# Altium schematic symbol library IC-MODULE.SchLib: 42 symbols
Pins are listed as number, name and electrical type; pins without a type are passive.

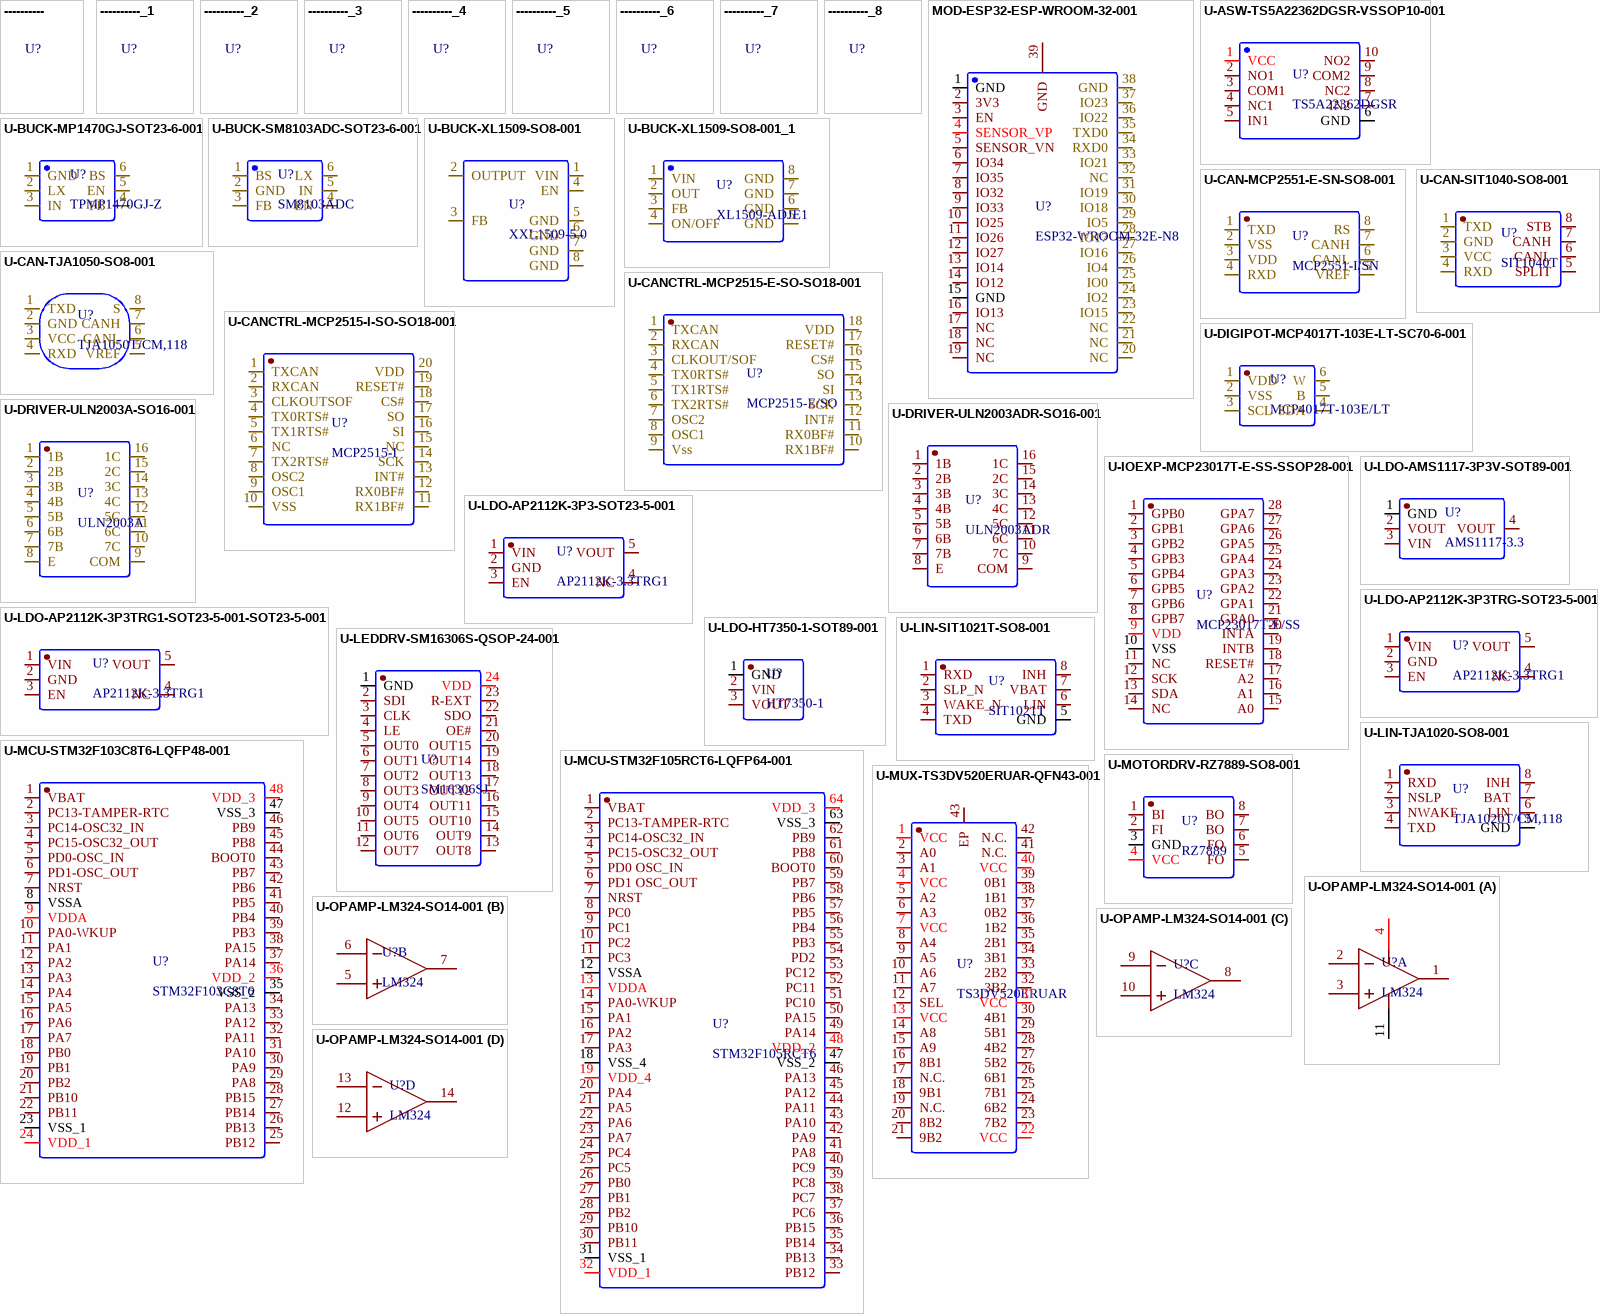
[diagram p0: symbols ---------- to U-OPAMP-LM324-SO14-001]

## ----------
designator U?

## ----------_1
designator U?

## ----------_2
designator U?

## ----------_3
designator U?

## ----------_4
designator U?

## ----------_5
designator U?

## ----------_6
designator U?

## ----------_7
designator U?

## ----------_8
designator U?

## MOD-ESP32-ESP-WROOM-32-001
designator U?, comment ESP32-WROOM-32E-N8
General-purpose Wi-Fi+BT+BLE MCU module; Manufacturer: ESPRESSIF; Internal_PN: MOD-ESP32-ESP-WROOM-32-001; Part_Name: MOD-ESP32-ESP-WROOM-32-001; Value: ESP32-WROOM-32E-N8; Package: SMD,25.5x18mm; MPN: ESP32-WROOM-32E-N8; Supplier: LCSC; Supplier_PN: C701342; LCSC_Part: C701342; Note: https://www.lcsc.com/product-detail/C701342.html?utm_source=chatgpt.com
footprint MOD-ESP32-ESP-WROOM-32-001 (General-purpose Wi-Fi+BT+BLE MCU module)
pins: 1 GND, 2 3V3, 3 EN, 4 SENSOR_VP, 5 SENSOR_VN, 6 IO34, 7 IO35, 8 IO32, 9 IO33, 10 IO25, 11 IO26, 12 IO27, 13 IO14, 14 IO12, 15 GND, 16 IO13, 17 NC, 18 NC, 19 NC, 20 NC, 21 NC, 22 NC, 23 IO15, 24 IO2, 25 IO0, 26 IO4, 27 IO16, 28 IO17, 29 IO5, 30 IO18, 31 IO19, 32 NC, 33 IO21, 34 RXD0, 35 TXD0, 36 IO22, 37 IO23, 38 GND, 39 GND

## U-ASW-TS5A22362DGSR-VSSOP10-001
designator U?, comment TS5A22362DGSR
2-channel SPDT Analog Switches With Negative Signaling Capability; Manufacturer: TI; Internal_PN: U-ASW-TS5A22362DGSR-VSSOP10-001; Part_Name: U-ASW-TS5A22362DGSR-VSSOP10-001; Value: TS5A22362DGSR; Package: VSSOP-10-0.5mm; MPN: TS5A22362DGSR; Supplier: LCSC; Supplier_PN: C201663; LCSC_Part: C201663; Note: https://www.lcsc.com/product-detail/C201663.html?s_z=n_q_TS5A22362DGSR&spm=wm.fly.bg.0.xh&lcsc_vid=FFlaVlZURFlbX1EAE1lbUlZfQwdeBlBRQ1VZBFdQQwUxVlNeQlBdU1dVQVRXUjsOAxUeFF5JWBYZEEoKFBINSQcJGk4eFQsCAgIaSgADAwAHC0slQFFfVFBUWQkaCgg%3D
pins: 1 VCC, 2 NO1, 3 COM1, 4 NC1, 5 IN1, 6 GND, 7 IN2, 8 NC2, 9 COM2, 10 NO2

## U-BUCK-MP1470GJ-SOT23-6-001
designator U?, comment TPMP1470GJ-Z
18V 2A 600KHz Synchronous Step-Down Converter; Manufacturer: TECH PUBLIC; Internal_PN: U-BUCK-MP1470GJ-SOT23-6-001; Part_Name: U-BUCK-MP1470GJ-SOT23-6-001; Value: TPMP1470GJ-Z; Package: SOT-23-6; MPN: TPMP1470GJ-Z; Supplier: LCSC; Supplier_PN: C558426; LCSC_Part: C558426; Note: https://www.lcsc.com/product-detail/C558426.html?s_z=n_q_MP1470GJ&spm=wm.fly.bg.0.xh&lcsc_vid=FFlaVlZURFlbX1EAE1lbUlZfQwdeBlBRQ1VZBFdQQwUxVlNeQlBdU11RQFddVTsOAxUeFF5JWBYZEEoKFBINSQcJGk4NBhADEA4cHktfQ1ZADxALGw%3D%3D
footprint U-BUCK-MP1470GJ-SOT23-6-001 (18V 2A 600KHz Synchronous Step-Down Converter)
pins: 1 GND, 2 LX, 3 IN, 4 FB, 5 EN, 6 BS

## U-BUCK-SM8103ADC-SOT23-6-001
designator U?, comment SM8103ADC
High Efficiency, 3.0A, 18V Input Synchronous Step Down Regulator; Manufacturer: Silergy; Internal_PN: U-BUCK-SM8103ADC-SOT23-6-001; Part_Name: U-BUCK-SM8103ADC-SOT23-6-001; Value: SM8103ADC; Package: TSOT-23-6; MPN: SM8103ADC; Supplier: LCSC; Supplier_PN: C479070; LCSC_Part: C479070; Note: https://www.lcsc.com/product-detail/C479070.html?s_z=n_q_SM8103ADC&spm=wm.fly.bg.0.xh&lcsc_vid=FFlaVlZURFlbX1EAE1lbUlZfQwdeBlBRQ1VZBFdQQwUxVlNeQlBdUldRQFFaVjsOAxUeFF5JWBYZEEoKFBINSQcJGk4NBhADEA4cHktXR1NXSQwSGg0%3D
footprint U-BUCK-SM8103ADC-SOT23-6-001 (High Efficiency, 3.0A, 18V Input Synchronous Step Down Regulator)
pins: 1 BS, 2 GND, 3 FB, 4 EN, 5 IN, 6 LX

## U-BUCK-XL1509-SO8-001
designator U?, comment XXL1509-5.0
150KHz 3A PWM Buck DC/DC Converter; Manufacturer: XBLW; Internal_PN: U-BUCK-XL1509-SO8-001; Part_Name: U-BUCK-XL1509-SO8-001; Value: XXL1509-5.0; Package: SOP-8; MPN: XXL1509-5.0; Supplier: LCSC; Supplier_PN: C42376977; LCSC_Part: C42376977; Note: https://www.lcsc.com/product-detail/C42376977.html?s_z=n_q_XL1509&spm=wm.fly.bg.0.xh&lcsc_vid=FFlaVlZURFlbX1EAE1lbUlZfQwdeBlBRQ1VZBFdQQwUxVlNeQlBdUlJWQlNZVjsOAxUeFF5JWBYZEEoKFBINSQcJGk4NBhADEA4cHktXR1NXSQwSGg0%3D
footprint U-BUCK-XL1509-SO8-001 (150KHz 3A PWM Buck DC/DC Converter)
pins: 1 VIN, 2 OUTPUT, 3 FB, 4 EN, 5 GND, 6 GND, 7 GND, 8 GND

## U-BUCK-XL1509-SO8-001_1
designator U?, comment XL1509-ADJE1
2A 150KHz 40V Buck DC to DC Converter; Manufacturer: XLSEMI; Internal_PN: U-BUCK-XL1509-SO8-001; Part_Name: U-BUCK-XL1509-SO8-001; Value: XL1509-ADJE1; Package: C74192; MPN: XL1509-ADJE1; Supplier: LCSC; Supplier_PN: C74192; LCSC_Part: C74192; Note: https://www.lcsc.com/product-detail/C74192.html?s_z=n_q_XL1509&spm=wm.fly.bg.4.xh&lcsc_vid=FFlaVlZURFlbX1EAE1lbUlZfQwdeBlBRQ1VZBFdQQwUxVlNeQlBdUlJWQlNZVjsOAxUeFF5JWBYZEEoKFBINSQcJGk4NBhADEA4cHktXR1NXSQwSGg0%3D
footprint U-BUCK-XL1509-5P0E1-SO8-001 (2A 150KHz 40V Buck DC to DC Converter)
pins: 1 VIN, 2 OUT, 3 FB, 4 ON/OFF, 5 GND, 6 GND, 7 GND, 8 GND

## U-CAN-MCP2551-E-SN-SO8-001
designator U?, comment MCP2551-I/SN
High-Speed CAN Transceiver; Manufacturer: MICROCHIP; Internal_PN: U-CAN-MCP2551-E-SN-SO8-001; Part_Name: U-CAN-MCP2551-E-SN-SO8-001; Value: MCP2551-I/SN; Package: SOIC-8; MPN: MCP2551-I/SN; Supplier: LCSC; Supplier_PN: C7376; LCSC_Part: C7376; Note: https://www.lcsc.com/product-detail/C7376.html?s_z=n_q_MCP2551&spm=wm.fly.bg.0.xh&lcsc_vid=FFlaVlZURFlbX1EAE1lbUlZfQwdeBlBRQ1VZBFdQQwUxVlNeQlBdUVZTQ1FeVzsOAxUeFF5JWBYZEEoKFBINSQcJGk4NBhADEA4cHktXR1NXSQwSGg0%3D
footprint U-CAN-MCP2551-E-SN-SO8-001 (High-Speed CAN Transceiver)
pins: 1 TXD, 2 VSS, 3 VDD, 4 RXD, 5 VREF, 6 CANL, 7 CANH, 8 RS

## U-CAN-SIT1040-SO8-001
designator U?, comment SIT1040T
5V Supply, ±40V Interface Voltage Tolerance, 1Mbps High-Speed CAN Bus Transceiver; Manufacturer: SIT; Internal_PN: U-CAN-SIT1040-SO8-001; Part_Name: U-CAN-SIT1040-SO8-001; Value: SIT1040T; Package: SO-8; MPN: SIT1040T; Supplier: LCSC; Supplier_PN: C381512; LCSC_Part: C381512; Note: https://www.lcsc.com/product-detail/C381512.html?s_z=n_q_SIT1040&spm=wm.fly.bg.0.xh&lcsc_vid=FFlaVlZURFlbX1EAE1lbUlZfQwdeBlBRQ1VZBFdQQwUxVlNeQlBdUVJXR1hdUjsOAxUeFF5JWBYZEEoKFBINSQcJGk4NBhADEA4cHktfQlBADxALGw%3D%3D
footprint U-CAN-SIT1040-SO8-001 (5V Supply, ±40V Interface Voltage Tolerance, 1Mbps High-Speed CAN Bus Transceiver)
pins: 1 TXD, 2 GND, 3 VCC, 4 RXD, 5 SPLIT, 6 CANL, 7 CANH, 8 STB

## U-CAN-TJA1050-SO8-001
designator U?, comment TJA1050T/CM,118
High speed CAN transceiver; Manufacturer: NXP; Internal_PN: U-CAN-TJA1050-SO8-001; Part_Name: U-CAN-TJA1050-SO8-001; Value: TJA1050T/CM,118; Package: SOP-8; MPN: TJA1050T/CM,118; Supplier: LCSC; Supplier_PN: C6952; LCSC_Part: C6952; Note: https://www.lcsc.com/product-detail/C6952.html?s_z=n_q_TJA1050&spm=wm.fly.bg.0.xh&lcsc_vid=FFlaVlZURFlbX1EAE1lbUlZfQwdeBlBRQ1VZBFdQQwUxVlNeQlBdUFZRQ1ZcUjsOAxUeFF5JWBYZEEoKFBINSQcJGk4NBhADEA4cHktfQlBADxALGw%3D%3D
pins: 1 TXD, 2 GND, 3 VCC, 4 RXD, 5 VREF, 6 CANL, 7 CANH, 8 S

## U-CANCTRL-MCP2515-E-SO-SO18-001
designator U?, comment MCP2515-E/SO
Stand-Alone CAN Controller with SPI Interface; Manufacturer: MICROCHIP; Internal_PN: U-CANCTRL-MCP2515-E-SO-SO18-001; Part_Name: U-CANCTRL-MCP2515-E-SO-SO18-001; Value: MCP2515-E/SO; Package: SOIC-18-300mil; MPN: MCP2515-E/SO; Supplier: LCSC; Supplier_PN: C642512; LCSC_Part: C642512; Note: https://www.lcsc.com/product-detail/C642512.html?s_z=n_q_MCP2515-E&spm=wm.fly.bg.3.xh&lcsc_vid=FFlaVlZURFlbX1EAE1lbUlZfQwdeBlBRQ1VZBFdQQwUxVlNeQlBdX1RXQ1ZaVzsOAxUeFF5JWBYZEEoKFBINSQcJGk4NBhADEA4cHktfQlBADxALGw%3D%3D
footprint U-CANCTRL-MCP2515-E-SO-SO18-001 (Stand-Alone CAN Controller with SPI Interface)
pins: 1 TXCAN, 2 RXCAN, 3 CLKOUT/SOF, 4 TX0RTS#, 5 TX1RTS#, 6 TX2RTS#, 7 OSC2, 8 OSC1, 9 Vss, 10 RX1BF#, 11 RX0BF#, 12 INT#, 13 SCK, 14 SI, 15 SO, 16 CS#, 17 RESET#, 18 VDD

## U-CANCTRL-MCP2515-I-SO-SO18-001
designator U?, comment MCP2515-I
Stand-alone CAN controller with SPI interface; Manufacturer: Tokmas; Internal_PN: U-CANCTRL-MCP2515-I-SO-SO18-001; Part_Name: U-CANCTRL-MCP2515-I-SO-SO18-001; Value: MCP2515-I; Package: TSSOP-20; MPN: MCP2515-I; Supplier: LCSC; Supplier_PN: C5250735; LCSC_Part: C5250735; Note: https://www.lcsc.com/product-detail/C5250735.html?s_z=n_q_x_MCP2515-I&spm=wm.ssy.em.0.tz&lcsc_vid=FFlaVlZURFlbX1EAE1lbUlZfQwdeBlBRQ1VZBFdQQwUxVlNeQlBdX1BXRVdaVzsOAxUeFF5JWBYZEEoKFBINSQcJGk4dAgUUFAk%3D
footprint U-CANCTRL-MCP2515-I-SO-SO18-001 (Stand-alone CAN controller with SPI interface)
pins: 1 TXCAN, 2 RXCAN, 3 CLKOUTSOF, 4 TX0RTS#, 5 TX1RTS#, 6 NC, 7 TX2RTS#, 8 OSC2, 9 OSC1, 10 VSS, 11 RX1BF#, 12 RX0BF#, 13 INT#, 14 SCK, 15 NC, 16 SI, 17 SO, 18 CS#, 19 RESET#, 20 VDD

## U-DIGIPOT-MCP4017T-103E-LT-SC70-6-001
designator U?, comment MCP4017T-103E/LT
7-Bit Single I²C Digital POT with Volatile Memory in SC70; Manufacturer: MICROCHIP; Internal_PN: U-DIGIPOT-MCP4017T-103E-LT-SC70-6-001; Part_Name: U-DIGIPOT-MCP4017T-103E-LT-SC70-6-001; Value: MCP4017T-103E/LT; Package: SC-70-6; MPN: MCP4017T-103E/LT; Supplier: LCSC; Supplier_PN: C623396; LCSC_Part: C623396; Note: https://www.lcsc.com/product-detail/C623396.html?s_z=n_q_MCP4017T&spm=wm.fly.bg.0.xh&lcsc_vid=FFlaVlZURFlbX1EAE1lbUlZfQwdeBlBRQ1VZBFdQQwUxVlNeQlNeXlRSQFJYUjsOAxUeFF5JWBYZEEoKFBINSQcJGk4%3D
footprint U-DIGIPOT-MCP4017T-103E-LT-SC70-6-001 (7-Bit Single I²C Digital POT with Volatile Memory in SC70)
pins: 1 VDD, 2 VSS, 3 SCL, 4 SDA, 5 B, 6 W

## U-DRIVER-ULN2003A-SO16-001
designator U?, comment ULN2003A
50V Seven channels 500mA SOP-16-150mil Bipolar Transistor Arrays RoHS; Manufacturer: Mixic; Internal_PN: U-DRIVER-ULN2003A-SO16-001; Part_Name: U-DRIVER-ULN2003A-SO16-001; Value: ULN2003A; Package: SOP-16-150mil; MPN: ULN2003A; Supplier: LCSC; Supplier_PN: C181730; LCSC_Part: C181730; Note: https://www.lcsc.com/product-detail/C181730.html?s_z=n_q_x_ULN2003A&spm=wm.ssy.em.0.tz&lcsc_vid=FFlaVlZURFlbX1EAE1lbUlZfQwdeBlBRQ1VZBFdQQwUxVlNeQlNeXlFXQ1JbVDsOAxUeFF5JWBYZEEoKFBINSQcJGk4NBhADEA4cHktfRFJADxALGw%3D%3D
footprint U-DRIVER-ULN2003A-SO16-001 (50V Seven channels 500mA SOP-16-150mil Bipolar Transistor Arrays RoHS)
pins: 1 1B, 2 2B, 3 3B, 4 4B, 5 5B, 6 6B, 7 7B, 8 E, 9 COM, 10 7C, 11 6C, 12 5C, 13 4C, 14 3C, 15 2C, 16 1C

## U-DRIVER-ULN2003ADR-SO16-001
designator U?, comment ULN2003ADR
50V Seven channels 500mA SOIC-16 Bipolar Transistor Arrays RoHS; Manufacturer: TI; Internal_PN: U-DRIVER-ULN2003ADR-SO16-001; Part_Name: U-DRIVER-ULN2003ADR-SO16-001; Value: ULN2003ADR; Package: SOIC-16; MPN: ULN2003ADR; Supplier: LCSC; Supplier_PN: C7512; LCSC_Part: C7512; Note: https://www.lcsc.com/product-detail/C7512.html?s_z=n_q_x_ULN2003ADR&spm=wm.ssy.em.0.tz&lcsc_vid=FFlaVlZURFlbX1EAE1lbUlZfQwdeBlBRQ1VZBFdQQwUxVlNeQlNeXlxSRlRaUjsOAxUeFF5JWBYZEEoKFBINSQcJGk4dAgUUFAk%3D
footprint U-DRIVER-ULN2003ADR-SO16-001 (50V Seven channels 500mA SOIC-16 Bipolar Transistor Arrays RoHS)
pins: 1 1B, 2 2B, 3 3B, 4 4B, 5 5B, 6 6B, 7 7B, 8 E, 9 COM, 10 7C, 11 6C, 12 5C, 13 4C, 14 3C, 15 2C, 16 1C

## U-IOEXP-MCP23017T-E-SS-SSOP28-001
designator U?, comment MCP23017T-E/SS
16-Bit I/O Expander with Serial Interface; Manufacturer: MICROCHIP; Internal_PN: U-IOEXP-MCP23017T-E-SS-SSOP28-001; Part_Name: U-IOEXP-MCP23017T-E-SS-SSOP28-001; Value: MCP23017T-E/SS; Package: SSOP-28; MPN: MCP23017T-E/SS; Supplier: LCSC; Supplier_PN: C558584; LCSC_Part: C558584; Note: https://www.lcsc.com/product-detail/C558584.html?s_z=n_q_MCP23017T&spm=wm.fly.bg.0.xh&lcsc_vid=FFlaVlZURFlbX1EAE1lbUlZfQwdeBlBRQ1VZBFdQQwUxVlNeQlNfV1RRQVNXUjsOAxUeFF5JWBYZEEoKFBINSQcJGk4dAgUUFAk%3D
footprint U-IOEXP-MCP23017T-E-SS-SSOP28-001 (16-Bit I/O Expander with Serial Interface)
pins: 1 GPB0, 2 GPB1, 3 GPB2, 4 GPB3, 5 GPB4, 6 GPB5, 7 GPB6, 8 GPB7, 9 VDD, 10 VSS, 11 NC, 12 SCK, 13 SDA, 14 NC, 15 A0, 16 A1, 17 A2, 18 RESET#, 19 INTB, 20 INTA, 21 GPA0, 22 GPA1, 23 GPA2, 24 GPA3, 25 GPA4, 26 GPA5, 27 GPA6, 28 GPA7

## U-LDO-AMS1117-3P3V-SOT89-001
designator U?, comment AMS1117-3.3
1A Low Dropout (LDO) Regulator; Manufacturer: Advanced Monolithic Systems; Internal_PN: U-LDO-AMS1117-3P3V-SOT89-001; Part_Name: U-LDO-AMS1117-3P3V-SOT89-001; Value: AMS1117-3.3; Package: SOT-223; MPN: AMS1117-3.3; Supplier: LCSC; Supplier_PN: C6186; LCSC_Part: C6186; Note: https://www.lcsc.com/product-detail/C6186.html?s_z=n_q_AMS1117&spm=wm.fly.bg.0.xh&lcsc_vid=FFlaVlZURFlbX1EAE1lbUlZfQwdeBlBRQ1VZBFdQQwUxVlNeQlNfV1dXTlVZXjsOAxUeFF5JWBYZEEoKFBINSQcJGk4NBhADEA4cHktfQlVADxALGw%3D%3D
footprint U-LDO-AMS1117-3P3V-SOT89-001 (1A Low Dropout (LDO) Regulator)
pins: 1 GND, 2 VOUT, 3 VIN, 4 VOUT

## U-LDO-AP2112K-3P3-SOT23-5-001
designator U?, comment AP2112K-3.3TRG1
600mA CMOS LDO REGULATOR WITH ENABLE; Manufacturer: DIODES; Internal_PN: U-LDO-AP2112K-3P3-SOT23-5-001; Part_Name: U-LDO-AP2112K-3P3-SOT23-5-001; Value: AP2112K-3.3TRG1; Package: SOT-25-5; MPN: AP2112K-3.3TRG1; Supplier: LCSC; Supplier_PN: C51118; LCSC_Part: C51118; Note: https://www.lcsc.com/product-detail/C51118.html?s_z=n_q_AP2112K&spm=wm.fly.bg.0.xh&lcsc_vid=FFlaVlZURFlbX1EAE1lbUlZfQwdeBlBRQ1VZBFdQQwUxVlNeQlNfV1FQT1JbVjsOAxUeFF5JWBYZEEoKFBINSQcJGk4NBhADEA4cHktXR1JcSQwSGg0%3D
footprint U-LDO-AP2112K-3P3-SOT23-5-001 (600mA CMOS LDO REGULATOR WITH ENABLE)
pins: 1 VIN, 2 GND, 3 EN, 4 NC, 5 VOUT

## U-LDO-AP2112K-3P3TRG1-SOT23-5-001-SOT23-5-001
designator U?, comment AP2112K-3.3TRG1
600mA CMOS LDO REGULATOR WITH ENABLE; Manufacturer: DIODES; Internal_PN: U-LDO-AP2112K-3P3TRG1-SOT23-5-001; Part_Name: U-LDO-AP2112K-3P3TRG1-SOT23-5-001; Value: AP2112K-3.3TRG1; Package: SOT-25-5; MPN: AP2112K-3.3TRG1; Supplier: LCSC; Supplier_PN: C51118; LCSC_Part: C51118; Note: https://www.lcsc.com/product-detail/C51118.html?s_z=n_q_AP2112K&spm=wm.fly.bg.0.xh&lcsc_vid=FFlaVlZURFlbX1EAE1lbUlZfQwdeBlBRQ1VZBFdQQwUxVlNeQlNfV1FQT1JbVjsOAxUeFF5JWBYZEEoKFBINSQcJGk4NBhADEA4cHktXR1JcSQwSGg0%3D
footprint U-LDO-AP2112K-3P3-SOT23-5-001 (600mA CMOS LDO REGULATOR WITH ENABLE)
pins: 1 VIN, 2 GND, 3 EN, 4 NC, 5 VOUT

## U-LDO-AP2112K-3P3TRG-SOT23-5-001
designator U?, comment AP2112K-3.3TRG1
600mA CMOS LDO REGULATOR WITH ENABLE; Manufacturer: DIODES; Internal_PN: U-LDO-AP2112K-3P3TRG-SOT23-5-001; Part_Name: U-LDO-AP2112K-3P3TRG-SOT23-5-001; Value: AP2112K-3.3TRG1; Package: SOT-25-5; MPN: AP2112K-3.3TRG1; Supplier: LCSC; Supplier_PN: C51118; LCSC_Part: C51118; Note: https://www.lcsc.com/product-detail/C51118.html?s_z=n_q_AP2112K&spm=wm.fly.bg.0.xh&lcsc_vid=FFlaVlZURFlbX1EAE1lbUlZfQwdeBlBRQ1VZBFdQQwUxVlNeQlNfV1FQT1JbVjsOAxUeFF5JWBYZEEoKFBINSQcJGk4NBhADEA4cHktXR1JcSQwSGg0%3D
footprint U-LDO-AP2112K-3P3-SOT23-5-001 (600mA CMOS LDO REGULATOR WITH ENABLE)
pins: 1 VIN, 2 GND, 3 EN, 4 NC, 5 VOUT

## U-LDO-HT7350-1-SOT89-001
designator U?, comment HT7350-1
250mA LOW POWER LDO; Manufacturer: TDSEMIC; Internal_PN: U-LDO-HT7350-1-SOT89-001; Part_Name: U-LDO-HT7350-1-SOT89-001; Value: HT7350-1; Package: SOT-89; MPN: HT7350-1; Supplier: LCSC; Supplier_PN: C22466409; LCSC_Part: C22466409; Note: https://www.lcsc.com/product-detail/C22466409.html?s_z=n_q_HT7350&spm=wm.fly.bg.5.xh&lcsc_vid=FFlaVlZURFlbX1EAE1lbUlZfQwdeBlBRQ1VZBFdQQwUxVlNeQlNfVlRWT1BfUzsOAxUeFF5JWBYZEEoKFBINSQcJGk4NBhADEA4cHktXR1JcSQwSGg0%3D
footprint U-LDO-HT7350-1-SOT89-001 (250mA LOW POWER LDO)
pins: 1 GND, 2 VIN, 3 VOUT

## U-LEDDRV-SM16306S-QSOP-24-001
designator U?, comment SM16306SJ
Low-power constant-current driver IC; Manufacturer: Shenzhen Sunmoon Micro; Internal_PN: U-LEDDRV-SM16306S-QSOP-24-001; Part_Name: U-LEDDRV-SM16306S-QSOP-24-001; Value: SM16306SJ; Package: QSOP-24; MPN: SM16306SJ; Supplier: LCSC; Supplier_PN: C2830324; LCSC_Part: C2830324; Note: https://www.lcsc.com/product-detail/C2830324.html?s_z=n_q_SM16306S&spm=wm.fly.bg.0.xh&lcsc_vid=FFlaVlZURFlbX1EAE1lbUlZfQwdeBlBRQ1VZBFdQQwUxVlNeQlNfVlZQQVZbUzsOAxUeFF5JWBYZEEoKFBINSQcJGk4NBhADEA4cHktXR1JcSQwSGg0%3D
footprint U-LEDDRV-SM16306S-QSOP-24-001 (Low-power constant-current driver IC)
pins: 1 GND, 2 SDI, 3 CLK, 4 LE, 5 OUT0, 6 OUT1, 7 OUT2, 8 OUT3, 9 OUT4, 10 OUT5, 11 OUT6, 12 OUT7, 13 OUT8, 14 OUT9, 15 OUT10, 16 OUT11, 17 OUT12, 18 OUT13, 19 OUT14, 20 OUT15, 21 OE#, 22 SDO, 23 R-EXT, 24 VDD

## U-LIN-SIT1021T-SO8-001
designator U?, comment SIT1021T
Local Interconnect Network (LIN) transceiver; Manufacturer: SIT; Internal_PN: U-LIN-SIT1021T-SO8-001; Part_Name: U-LIN-SIT1021T-SO8-001; Value: SIT1021T; Package: SOP-8; MPN: SIT1021T; Supplier: LCSC; Supplier_PN: C2962199; LCSC_Part: C2962199; Note: https://www.lcsc.com/product-detail/C2962199.html?s_z=n_q_SIT1021T&spm=wm.fly.bg.0.xh&lcsc_vid=FFlaVlZURFlbX1EAE1lbUlZfQwdeBlBRQ1VZBFdQQwUxVlNeQlNfVlFSQ1ZeVjsOAxUeFF5JWBYZEEoKFBINSQcJGk4NBhADEA4cHktXR1BaSQwSGg0%3D
footprint U-LIN-SIT1021T-SO8-001 (Local Interconnect Network (LIN) transceiver)
pins: 1 RXD, 2 SLP_N, 3 WAKE_N, 4 TXD, 5 GND, 6 LIN, 7 VBAT, 8 INH

## U-LIN-TJA1020-SO8-001
designator U?, comment TJA1020T/CM,118
LIN transceiver; Manufacturer: NXP; Internal_PN: U-LIN-TJA1020-SO8-001; Part_Name: U-LIN-TJA1020-SO8-001; Value: TJA1020T/CM,118; Package: SOIC-8; MPN: TJA1020T/CM,118; Supplier: LCSC; Supplier_PN: C6950; LCSC_Part: C6950; Note: https://www.lcsc.com/product-detail/C6950.html?s_z=n_q_TJA1020&spm=wm.fly.bg.0.xh&lcsc_vid=FFlaVlZURFlbX1EAE1lbUlZfQwdeBlBRQ1VZBFdQQwUxVlNeQlNfVlNfQ1dYVTsOAxUeFF5JWBYZEEoKFBINSQcJGk4NBhADEA4cHktfQlBADxALGw%3D%3D
footprint U-LIN-TJA1020-SO8-001 (LIN transceiver)
pins: 1 RXD, 2 NSLP, 3 NWAKE, 4 TXD, 5 GND, 6 LIN, 7 BAT, 8 INH

## U-MCU-STM32F103C8T6-LQFP48-001
designator U?, comment STM32F103C8T6
Medium-density performance line Arm-based 32-bit MCU with 64 or 128 KB Flash, USB, CAN, 7 timers, 2 ADCs, 9 com. interfaces; Manufacturer: ST; Internal_PN: U-MCU-STM32F103C8T6-LQFP48-001; Part_Name: U-MCU-STM32F103C8T6-LQFP48-001; Value: STM32F103C8T6; Package: LQFP-48(7x7); MPN: STM32F103C8T6; Supplier: LCSC; Supplier_PN: C8734; LCSC_Part: C8734; Note: https://www.lcsc.com/product-detail/C8734.html?s_z=n_q_x_STM32F103C8T6&spm=wm.ssy.em.0.tz&lcsc_vid=FFlaVlZURFlbX1EAE1lbUlZfQwdeBlBRQ1VZBFdQQwUxVlNeQlNfVVRRRlVaVzsOAxUeFF5JWBYZEEoKFBINSQcJGk4dAgUUFAk%3D
footprint U-MCU-STM32F103C8T6-LQFP48-001 (Medium-density performance line Arm-based 32-bit MCU with 64 or 128 KB Flash, USB, CAN, 7 timers, 2 ADCs, 9 com. interfaces)
pins: 1 VBAT, 2 PC13-TAMPER-RTC, 3 PC14-OSC32_IN, 4 PC15-OSC32_OUT, 5 PD0-OSC_IN, 6 PD1-OSC_OUT, 7 NRST, 8 VSSA, 9 VDDA, 10 PA0-WKUP, 11 PA1, 12 PA2, 13 PA3, 14 PA4, 15 PA5, 16 PA6, 17 PA7, 18 PB0, 19 PB1, 20 PB2, 21 PB10, 22 PB11, 23 VSS_1, 24 VDD_1, 25 PB12, 26 PB13, 27 PB14, 28 PB15, 29 PA8, 30 PA9, 31 PA10, 32 PA11, 33 PA12, 34 PA13, 35 VSS_2, 36 VDD_2, 37 PA14, 38 PA15, 39 PB3, 40 PB4, 41 PB5, 42 PB6, 43 PB7, 44 BOOT0, 45 PB8, 46 PB9, 47 VSS_3, 48 VDD_3

## U-MCU-STM32F105RCT6-LQFP64-001
designator U?, comment STM32F105RCT6
Connectivity line, ARM-based 32-bit MCU with 64/256 KB Flash, USB OTG, Ethernet, 10 timers, 2 CANs, 2 ADCs, 14 communication interfaces; Manufacturer: ST; Internal_PN: U-MCU-STM32F105RCT6-LQFP64-001; Part_Name: U-MCU-STM32F105RCT6-LQFP64-001; Value: STM32F105RCT6; Package: LQFP-64(10x10); MPN: STM32F105RCT6; Supplier: LCSC; Supplier_PN: C8345; LCSC_Part: C8345; Note: https://www.lcsc.com/product-detail/C8345.html?s_z=n_q_STM32F105RCT6&spm=wm.fly.bg.0.xh&lcsc_vid=FFlaVlZURFlbX1EAE1lbUlZfQwdeBlBRQ1VZBFdQQwUxVlNeQlNfVVdVTlJeUDsOAxUeFF5JWBYZEEoKFBINSQcJGk4eFQsCAgIaSgADAwAHC0slT1ZdU0oOAwwC
footprint U-MCU-STM32F105RCT6-LQFP64-001 (Connectivity line, ARM-based 32-bit MCU with 64/256 KB Flash, USB OTG, Ethernet, 10 timers, 2 CANs, 2 ADCs, 14 communication interfaces)
pins: 1 VBAT, 2 PC13-TAMPER-RTC, 3 PC14-OSC32_IN, 4 PC15-OSC32_OUT, 5 PD0 OSC_IN, 6 PD1 OSC_OUT, 7 NRST, 8 PC0, 9 PC1, 10 PC2, 11 PC3, 12 VSSA, 13 VDDA, 14 PA0-WKUP, 15 PA1, 16 PA2, 17 PA3, 18 VSS_4, 19 VDD_4, 20 PA4, 21 PA5, 22 PA6, 23 PA7, 24 PC4, 25 PC5, 26 PB0, 27 PB1, 28 PB2, 29 PB10, 30 PB11, 31 VSS_1, 32 VDD_1, 33 PB12, 34 PB13, 35 PB14, 36 PB15, 37 PC6, 38 PC7, 39 PC8, 40 PC9, 41 PA8, 42 PA9, 43 PA10, 44 PA11, 45 PA12, 46 PA13, 47 VSS_2, 48 VDD_2, 49 PA14, 50 PA15, 51 PC10, 52 PC11, 53 PC12, 54 PD2, 55 PB3, 56 PB4, 57 PB5, 58 PB6, 59 PB7, 60 BOOT0, 61 PB8, 62 PB9, 63 VSS_3, 64 VDD_3

## U-MOTORDRV-RZ7889-SO8-001
designator U?, comment RZ7889
DC bidirectional motor drive circuit; Manufacturer: RZ(Wuxi Smart Microelectronics); Internal_PN: U-MOTORDRV-RZ7889-SO8-001; Part_Name: U-MOTORDRV-RZ7889-SO8-001; Value: RZ7889; Package: SOP-8; MPN: RZ7889; Supplier: LCSC; Supplier_PN: C83668; LCSC_Part: C83668; Note: https://www.lcsc.com/product-detail/C83668.html?s_z=n_q_RZ7889&spm=wm.fly.bg.1.xh&lcsc_vid=FFlaVlZURFlbX1EAE1lbUlZfQwdeBlBRQ1VZBFdQQwUxVlNeQlNfVVJTRVFdXjsOAxUeFF5JWBYZEEoKFBINSQcJGk4NBhADEA4cHktfQ1BADxALGw%3D%3D
footprint U-MOTORDRV-RZ7889-SO8-001 (DC bidirectional motor drive circuit)
pins: 1 BI, 2 FI, 3 GND, 4 VCC, 5 FO, 6 FO, 7 BO, 8 BO

## U-MUX-TS3DV520ERUAR-QFN43-001
designator U?, comment TS3DV520ERUAR
5-CHANNEL DIFFERENTIAL 10:20 MULTIPLEXER SWITCH FOR DVI/HDMI APPLICATIONS; Manufacturer: TI; Internal_PN: U-MUX-TS3DV520ERUAR-QFN43-001; Part_Name: U-MUX-TS3DV520ERUAR-QFN43-001; Value: TS3DV520ERUAR; Package: TQFN-42-EP(3.5x9); MPN: TS3DV520ERUAR; Supplier: LCSC; Supplier_PN: C2652778; LCSC_Part: C2652778; Note: https://www.lcsc.com/product-detail/C2652778.html?s_z=n_q_TS3DV520ERUAR&spm=wm.fly.bg.0.xh&lcsc_vid=FFlaVlZURFlbX1EAE1lbUlZfQwdeBlBRQ1VZBFdQQwUxVlNeQlNfVVxQQlBaXjsOAxUeFF5JWBYZEEoKFBINSQcJGk4NBhADEA4cHktXR1BYSQwSGg0%3D
footprint U-MUX-TS3DV520ERUAR-QFN43-001 (5-CHANNEL DIFFERENTIAL 10:20 MULTIPLEXER SWITCH FOR DVI/HDMI APPLICATIONS)
pins: 1 VCC, 2 A0, 3 A1, 4 VCC, 5 A2, 6 A3, 7 VCC, 8 A4, 9 A5, 10 A6, 11 A7, 12 SEL, 13 VCC, 14 A8, 15 A9, 16 8B1, 17 N.C., 18 9B1, 19 N.C., 20 8B2, 21 9B2, 22 VCC, 23 7B2, 24 6B2, 25 7B1, 26 6B1, 27 5B2, 28 4B2, 29 5B1, 30 4B1, 31 VCC, 32 3B2, 33 2B2, 34 3B1, 35 2B1, 36 1B2, 37 0B2, 38 1B1, 39 0B1, 40 VCC, 41 N.C., 42 N.C., 43 EP

## U-OPAMP-LM324-SO14-001
designator U?, comment LM324
SOP14 Plastic-Encapsulate Operational Amplifiers, Low Power Quad Operational Amplifier; Manufacturer: JSCJ; Internal_PN: U-OPAMP-LM324-SO14-001; Part_Name: U-OPAMP-LM324-SO14-001; Value: LM324; Package: SOP-14; MPN: LM324; Supplier: LCSC; Supplier_PN: C2829425; LCSC_Part: C2829425; Note: https://www.lcsc.com/product-detail/C2829425.html?s_z=n_q_x_LM324&spm=wm.ssy.em.0.tz&lcsc_vid=FFlaVlZURFlbX1EAE1lbUlZfQwdeBlBRQ1VZBFdQQwUxVlNeQlNfVFVVT1VYVjsOAxUeFF5JWBYZEEoKFBINSQcJGk4NBhADEA4cHktfQVhADxALGw%3D%3D
footprint U-OPAMP-LM324-SO14-001 (SOP14 Plastic-Encapsulate Operational Amplifiers, Low Power Quad Operational Amplifier)
part A pins: 1 VOUTA, 2 VINA-, 3 VINA+, 4 VDD, 11 VSS
part B pins: 5 VINB+, 6 VINB-, 7 VOUTB
part C pins: 8 VOUTC, 9 VINC-, 10 VINC+
part D pins: 12 VIND+, 13 VIND-, 14 VOUTD

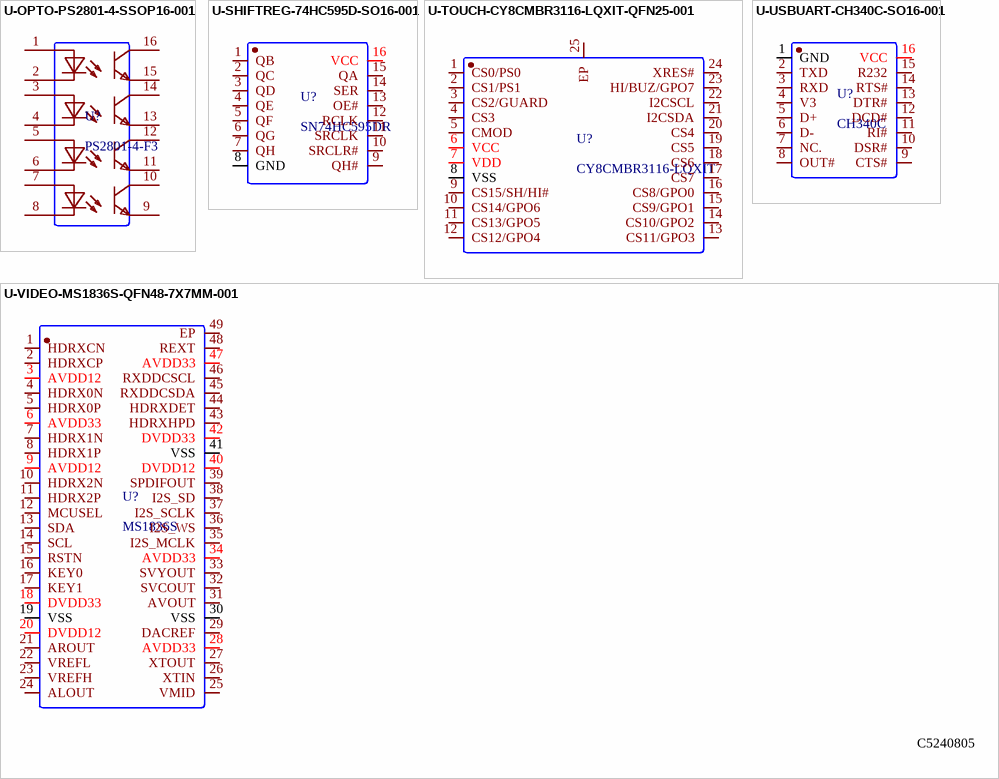
[diagram p1: symbols U-OPTO-PS2801-4-SSOP16-001 to U-VIDEO-MS1836S-QFN48-7X7MM-001]

## U-OPTO-PS2801-4-SSOP16-001
designator U?, comment PS2801-4-F3
HIGH ISOLATION VOLTAGES SOP PHOTOCOUPLER; Manufacturer: RENESAS; Internal_PN: U-OPTO-PS2801-4-SSOP16-001; Part_Name: U-OPTO-PS2801-4-SSOP16-001; Value: PS2801-4-F3; Package: SSOP-16; MPN: PS2801-4-F3; Supplier: LCSC; Supplier_PN: C133881; LCSC_Part: C133881; Note: https://www.lcsc.com/product-detail/C133881.html?s_z=n_q_PS2801&spm=wm.fly.bg.3.xh&lcsc_vid=FFlaVlZURFlbX1EAE1lbUlZfQwdeBlBRQ1VZBFdQQwUxVlNeQlNfU1VQR1dbXzsOAxUeFF5JWBYZEEoKFBINSQcJGk4eFQsCAgIaSgADAwAHC0slRVlcXlBUQk8GEwkK
footprint U-OPTO-PS2801-4-SSOP16-001 (HIGH ISOLATION VOLTAGES SOP PHOTOCOUPLER)
pins: 1 AN1, 2 CAT1, 3 AN2, 4 CAT2, 5 AN3, 6 CAT3, 7 AN4, 8 CAT4, 9 EM4, 10 COL4, 11 EM3, 12 COL3, 13 EM2, 14 COL2, 15 EM1, 16 COL1

## U-SHIFTREG-74HC595D-SO16-001
designator U?, comment SN74HC595DR
8-Bit Shift Registers With 3-State Output Registers; Manufacturer: TI; Internal_PN: U-SHIFTREG-74HC595D-SO16-001; Part_Name: U-SHIFTREG-74HC595D-SO16-001; Value: SN74HC595DR; Package: SOIC-16; MPN: SN74HC595DR; Supplier: LCSC; Supplier_PN: C10092; LCSC_Part: C10092; Note: https://www.lcsc.com/product-detail/C10092.html?s_z=n_q_74HC595D&spm=wm.fly.bg.0.xh&lcsc_vid=FFlaVlZURFlbX1EAE1lbUlZfQwdeBlBRQ1VZBFdQQwUxVlNeQlNfU1FfTlJZVTsOAxUeFF5JWBYZEEoKFBINSQcJGk4NBhADEA4cHktXR1JaSQwSGg0%3D
footprint U-SHIFTREG-74HC595D-SO16-001 (8-Bit Shift Registers With 3-State Output Registers)
pins: 1 QB, 2 QC, 3 QD, 4 QE, 5 QF, 6 QG, 7 QH, 8 GND, 9 QH#, 10 SRCLR#, 11 SRCLK, 12 RCLK, 13 OE#, 14 SER, 15 QA, 16 VCC

## U-TOUCH-CY8CMBR3116-LQXIT-QFN25-001
designator U?, comment CY8CMBR3116-LQXIT
CapSense Express Controllers with SmartSense Auto-tuning - 16 Buttons, 2 Sliders, Proximity Sensors; Manufacturer: Infineon/CYPRESS; Internal_PN: U-TOUCH-CY8CMBR3116-LQXIT-QFN25-001; Part_Name: U-TOUCH-CY8CMBR3116-LQXIT-QFN25-001; Value: CY8CMBR3116-LQXIT; Package: QFN-24-EP(4x4); MPN: CY8CMBR3116-LQXIT; Supplier: LCSC; Supplier_PN: C914913; LCSC_Part: C914913; Note: https://www.lcsc.com/product-detail/C914913.html?s_z=n_q_CY8CMBR3116&spm=wm.fly.bg.1.xh&lcsc_vid=FFlaVlZURFlbX1EAE1lbUlZfQwdeBlBRQ1VZBFdQQwUxVlNeQlNfU1xfQlJbVTsOAxUeFF5JWBYZEEoKFBINSQcJGk4NBhADEA4cHktfT1FADxALGw%3D%3D
footprint U-TOUCH-CY8CMBR3116-LQXIT-QFN25-001 (CapSense Express Controllers with SmartSense Auto-tuning - 16 Buttons, 2 Sliders, Proximity Sensors)
pins: 1 CS0/PS0, 2 CS1/PS1, 3 CS2/GUARD, 4 CS3, 5 CMOD, 6 VCC, 7 VDD, 8 VSS, 9 CS15/SH/HI#, 10 CS14/GPO6, 11 CS13/GPO5, 12 CS12/GPO4, 13 CS11/GPO3, 14 CS10/GPO2, 15 CS9/GPO1, 16 CS8/GPO0, 17 CS7, 18 CS6, 19 CS5, 20 CS4, 21 I2CSDA, 22 I2CSCL, 23 HI/BUZ/GPO7, 24 XRES#, 25 EP

## U-USBUART-CH340C-SO16-001
designator U?, comment CH340C
USB to Serial Port chip; Manufacturer: WCH; Internal_PN: U-USBUART-CH340C-SO16-001; Part_Name: U-USBUART-CH340C-SO16-001; Value: CH340C; Package: SOP-16; MPN: CH340C; Supplier: LCSC; Supplier_PN: C84681; LCSC_Part: C84681; Note: https://www.lcsc.com/product-detail/C84681.html?s_z=n_q_CH340C&spm=wm.fly.bg.0.xh&lcsc_vid=FFlaVlZURFlbX1EAE1lbUlZfQwdeBlBRQ1VZBFdQQwUxVlNeQlNfXlJVQ1NbXzsOAxUeFF5JWBYZEEoKFBINSQcJGk4NBhADEA4cHktXTlVZSQwSGg0%3D
footprint U-USBUART-CH340C-SO16-001 (USB to Serial Port chip)
pins: 1 GND, 2 TXD, 3 RXD, 4 V3, 5 D+, 6 D-, 7 NC., 8 OUT#, 9 CTS#, 10 DSR#, 11 RI#, 12 DCD#, 13 DTR#, 14 RTS#, 15 R232, 16 VCC

## U-VIDEO-MS1836S-QFN48-7X7MM-001
designator U?, comment MS1836S
HD to CVBS/S-Video Converter; Manufacturer: Macrosilicon; Internal_PN: U-VIDEO-MS1836S-QFN48-7X7MM-001; Part_Name: U-VIDEO-MS1836S-QFN48-7X7MM-001; Value: MS1836S; Package: QFN-48-EP(7x7); MPN: MS1836S; Supplier: LCSC; Supplier_PN: C5240805; LCSC_Part: C5240805; Note: https://www.lcsc.com/product-detail/C5240805.html?s_z=n_q_MS1836S&spm=wm.fly.bg.0.xh&lcsc_vid=FFlaVlZURFlbX1EAE1lbUlZfQwdeBlBRQ1VZBFdQQwUxVlNeQlNcV1VXR1JdVDsOAxUeFF5JWBYZEEoKFBINSQcJGk4MFQUIE05XUV1LRlNbVlJIHxUDCw%3D%3D
footprint U-VIDEO-MS1836S-QFN48-7X7MM-001 (HD to CVBS/S-Video Converter)
pins: 1 HDRXCN, 2 HDRXCP, 3 AVDD12, 4 HDRX0N, 5 HDRX0P, 6 AVDD33, 7 HDRX1N, 8 HDRX1P, 9 AVDD12, 10 HDRX2N, 11 HDRX2P, 12 MCUSEL, 13 SDA, 14 SCL, 15 RSTN, 16 KEY0, 17 KEY1, 18 DVDD33, 19 VSS, 20 DVDD12, 21 AROUT, 22 VREFL, 23 VREFH, 24 ALOUT, 25 VMID, 26 XTIN, 27 XTOUT, 28 AVDD33, 29 DACREF, 30 VSS, 31 AVOUT, 32 SVCOUT, 33 SVYOUT, 34 AVDD33, 35 I2S_MCLK, 36 I2S_WS, 37 I2S_SCLK, 38 I2S_SD, 39 SPDIFOUT, 40 DVDD12, 41 VSS, 42 DVDD33, 43 HDRXHPD, 44 HDRXDET, 45 RXDDCSDA, 46 RXDDCSCL, 47 AVDD33, 48 REXT, 49 EP